# EAGLE library part AD8418ABRMZ (library AD8418ABRMZ)
ANALOG DEVICES - AD8418ABRMZ - CURRENT SENSE AMPLIFIER, 250KHZ, MSOP-8 Source: Datasheet <http://www.analog.com/media/en/technical-documentation/data-sheets/AD8418A.pdf>
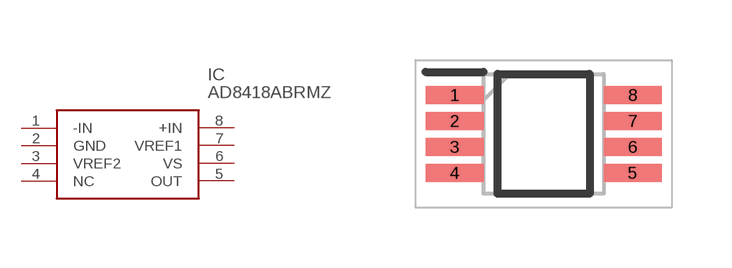
[diagram p0: symbol with the pads of SOP65P490X110-8N; footprint SOP65P490X110-8N]

Designator prefix IC

## AD8418ABRMZ (Description: ANALOG DEVICES - AD8418ABRMZ - CURRENT SENSE AMPLIFIER, 250KHZ, MSOP-8; Height: 1.1mm; Manufacturer_Name: Analog Devices; Manufacturer_Part_Number: AD8418ABRMZ; Mouser_Part_Number: 584-AD8418ABRMZ; Mouser_Price-Stock: https://www.mouser.com/Search/Refine.aspx?Keyword=584-AD8418ABRMZ; RS_Part_Number: 1831929; RS_Price-Stock: http://uk.rs-online.com/web/p/products/1831929)  [SOP65P490X110-8N]
1  -IN  in
2  GND  pwr
3  VREF2  in
4  NC  nc
5  OUT  out
6  VS  pwr
7  VREF1  in
8  +IN  in

## Footprint SOP65P490X110-8N (pad centres in mm)
RM-8 (MSOP)_3
smd 1.45 x 0.45: 1 -2.225,0.975; 2 -2.225,0.325; 3 -2.225,-0.325; 4 -2.225,-0.975; 5 2.225,-0.975; 6 2.225,-0.325; 7 2.225,0.325; 8 2.225,0.975